# Altium footprint library PcbLib_Connectors.PcbLib: 3 footprints
Each footprint in its own frame and in the unit in brackets; x right, y up, seen from the top. Pads: shape width x height; smd on the part's side, far side on the other; paste and mask are expansions set on the pad; w line width, h text height; cw(c..) or ccw(c..) is an arc to the next point about the centre after c.
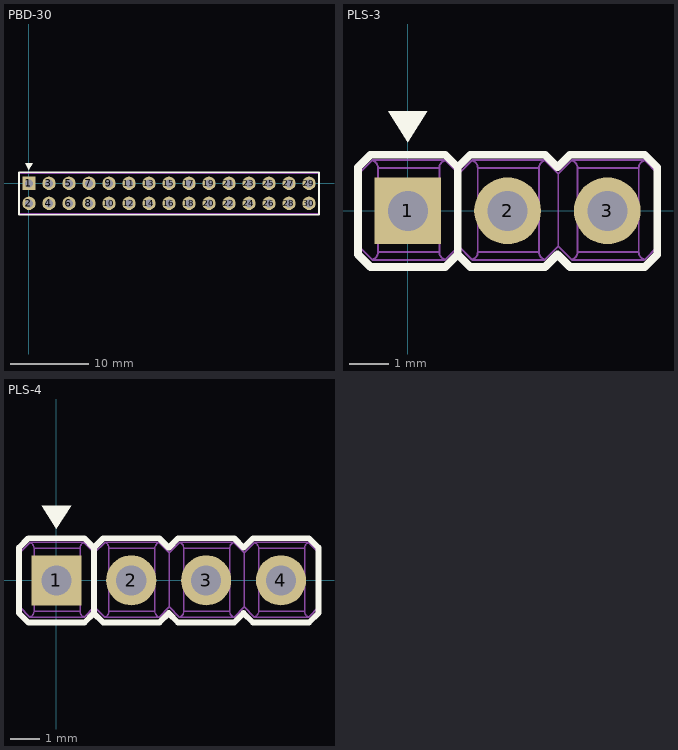
[diagram p0: the footprints below, top view; thin cyan lines are the x and y axes]

## PBD-30 [mm]
pads (30):
  rect 1.7x1.7 hole 1.02: 1(0,0)
  round 1.7 hole 1.02: 2(0,-2.54) 3(2.54,0) 4(2.54,-2.54) 5(5.08,0) 6(5.08,-2.54) 7(7.62,0) 8(7.62,-2.54) 9(10.16,0) 10(10.16,-2.54) 11(12.7,0) 12(12.7,-2.54) 13(15.24,0) 14(15.24,-2.54) 15(17.78,0) 16(17.78,-2.54) 17(20.32,0) 18(20.32,-2.54) 19(22.86,0) 20(22.86,-2.54) 21(25.4,0) 22(25.4,-2.54) 23(27.94,0) 24(27.94,-2.54) 25(30.48,0) 26(30.48,-2.54) 27(33.02,0) 28(33.02,-2.54) 29(35.56,0) 30(35.56,-2.54)
Top Overlay:
  region: 0,1.746 0.496,2.54 -0.496,2.54
  lines w0.2: -1.27,-3.969 -1.27,1.429 36.83,1.429 36.83,-3.969 -1.27,-3.969
Mechanical 13:
  drawing of 364 lines, arcs and shapes, not listed

## PLS-3 [mm]
pads (3):
  rect 1.7x1.7 hole 1.02: 1(0,0)
  round 1.7 hole 1.02: 2(2.54,0) 3(5.08,0)
Top Overlay:
  region: 0,1.746 0.496,2.54 -0.496,2.54
  lines w0.2: 1.27,-1.111 1.27,1.111 ; 1.27,-1.111 1.588,-1.429 3.493,-1.429 3.81,-1.111 4.128,-1.429 6.033,-1.429 6.35,-1.111 6.35,1.111 6.032,1.429 4.127,1.429 3.81,1.111 3.492,1.429 1.587,1.429 1.27,1.111 ; 1.27,-1.111 0.953,-1.429 -0.952,-1.429 -1.27,-1.111 -1.27,1.111 -0.953,1.429 0.953,1.429 1.27,1.111
Mechanical 13:
  lines w0.05: -0.907,-1.243 ccw(c-0.96,-1.05) -0.76,-1.05 ; -0.907,-1.243 -0.9,-1.25 0.94,-1.25 0.947,-1.243 ; -0.907,-1.243 -1.25,-0.9 -1.25,0.94 -0.907,1.283 ; -0.907,1.283 cw(c-0.96,1.09) -0.76,1.09 ; -0.907,1.283 -0.9,1.29 0.94,1.29 0.947,1.283 ; -0.76,-1.05 0.8,-1.05 ; -0.76,-1.05 -0.76,1.09 ; -0.76,1.09 0.8,1.09 ; -0.335,-0.335 -0.335,0.335 ; -0.335,-0.335 -0.135,-0.135 ; -0.335,-0.335 0.335,-0.335 ; -0.335,0.335 -0.135,0.135 ; -0.335,0.335 0.335,0.335 ; -0.135,-0.135 -0.135,0.135 ; -0.135,-0.135 0.135,-0.135 ; -0.135,0.135 0.135,0.135 ; 0.135,-0.135 0.335,-0.335 ; 0.135,-0.135 0.135,0.135 ; 0.135,0.135 0.335,0.335 ; 0.335,-0.335 0.335,0.335 ; 0.8,-1.05 ccw(c1,-1.05) 0.947,-1.243 ; 0.8,-1.05 0.8,1.09 ; 0.8,1.09 cw(c1,1.09) 0.947,1.283 ; 0.947,-1.243 1.29,-0.9 ; 0.947,1.283 1.29,0.94 ; 1.29,-0.9 1.633,-1.243 ; 1.29,-0.9 1.29,0.94 ; 1.29,0.94 1.633,1.283 ; 1.633,-1.243 ccw(c1.58,-1.05) 1.78,-1.05 ; 1.633,-1.243 1.64,-1.25 3.48,-1.25 3.487,-1.243 ; 1.633,1.283 cw(c1.58,1.09) 1.78,1.09 ; 1.633,1.283 1.64,1.29 3.48,1.29 3.487,1.283 ; 1.78,-1.05 3.34,-1.05 ; 1.78,-1.05 1.78,1.09 ; 1.78,1.09 3.34,1.09 ; 2.205,-0.335 2.875,-0.335 ; 2.205,-0.335 2.405,-0.135 ; 2.205,-0.335 2.205,0.335 ; 2.205,0.335 2.875,0.335 ; 2.205,0.335 2.405,0.135 ; 2.405,-0.135 2.675,-0.135 ; 2.405,-0.135 2.405,0.135 ; 2.405,0.135 2.675,0.135 ; 2.675,-0.135 2.875,-0.335 ; 2.675,-0.135 2.675,0.135 ; 2.675,0.135 2.875,0.335 ; 2.875,-0.335 2.875,0.335 ; 3.34,-1.05 ccw(c3.54,-1.05) 3.487,-1.243 ; 3.34,-1.05 3.34,1.09 ; 3.34,1.09 cw(c3.54,1.09) 3.487,1.283 ; 3.487,-1.243 3.83,-0.9 ; 3.487,1.283 3.83,0.94 ; 3.83,-0.9 4.173,-1.243 ; 3.83,-0.9 3.83,0.94 ; 3.83,0.94 4.173,1.283 ; 4.173,-1.243 ccw(c4.12,-1.05) 4.32,-1.05 ; 4.173,-1.243 4.18,-1.25 6.02,-1.25 6.027,-1.243 ; 4.173,1.283 cw(c4.12,1.09) 4.32,1.09 ; 4.173,1.283 4.18,1.29 6.02,1.29 6.027,1.283 ; 4.32,-1.05 5.88,-1.05 ; 4.32,-1.05 4.32,1.09 ; 4.32,1.09 5.88,1.09 ; 4.745,-0.335 5.415,-0.335 ; 4.745,-0.335 4.945,-0.135 ; 4.745,-0.335 4.745,0.335 ; 4.745,0.335 4.945,0.135 ; 4.745,0.335 5.415,0.335 ; 4.945,-0.135 5.215,-0.135 ; 4.945,-0.135 4.945,0.135 ; 4.945,0.135 5.215,0.135 ; 5.215,-0.135 5.415,-0.335 ; 5.215,-0.135 5.215,0.135 ; 5.215,0.135 5.415,0.335 ; 5.415,-0.335 5.415,0.335 ; 5.88,-1.05 ccw(c6.08,-1.05) 6.027,-1.243 ; 5.88,-1.05 5.88,1.09 ; 5.88,1.09 cw(c6.08,1.09) 6.027,1.283 ; 6.027,-1.243 6.37,-0.9 6.37,0.94 6.027,1.283
3D body "User Library-1x3 TH Pitch 2_54mm.STEP": height 9.2, standoff -3.5, extent -1.25,-1.25 6.37,1.29

## PLS-4 [mm]
pads (4):
  rect 1.7x1.7 hole 1.02: 1(0,0)
  round 1.7 hole 1.02: 2(2.54,0) 3(5.08,0) 4(7.62,0)
Top Overlay:
  region: 0,1.746 0.496,2.54 -0.496,2.54
  lines w0.2: 1.27,-1.111 0.953,-1.429 -0.952,-1.429 -1.27,-1.111 -1.27,1.111 -0.953,1.429 0.953,1.429 1.27,1.111 ; 1.27,-1.111 1.588,-1.429 3.493,-1.429 3.81,-1.111 4.128,-1.429 6.033,-1.429 6.35,-1.111 6.668,-1.429 8.573,-1.429 8.89,-1.111 8.89,1.111 8.572,1.429 6.667,1.429 6.35,1.111 6.032,1.429 4.127,1.429 3.81,1.111 3.492,1.429 1.587,1.429 1.27,1.111 ; 1.27,-1.111 1.27,1.111
Mechanical 13:
  lines w0.05: -0.907,-1.243 ccw(c-0.96,-1.05) -0.76,-1.05 ; -0.907,-1.243 -1.25,-0.9 -1.25,0.94 -0.907,1.283 ; -0.907,-1.243 -0.9,-1.25 0.94,-1.25 0.947,-1.243 ; -0.907,1.283 cw(c-0.96,1.09) -0.76,1.09 ; -0.907,1.283 -0.9,1.29 0.94,1.29 0.947,1.283 ; -0.76,-1.05 -0.76,1.09 ; -0.76,-1.05 0.8,-1.05 ; -0.76,1.09 0.8,1.09 ; -0.335,-0.335 0.335,-0.335 ; -0.335,-0.335 -0.135,-0.135 ; -0.335,-0.335 -0.335,0.335 ; -0.335,0.335 0.335,0.335 ; -0.335,0.335 -0.135,0.135 ; -0.135,-0.135 0.135,-0.135 ; -0.135,-0.135 -0.135,0.135 ; -0.135,0.135 0.135,0.135 ; 0.135,-0.135 0.135,0.135 ; 0.135,-0.135 0.335,-0.335 ; 0.135,0.135 0.335,0.335 ; 0.335,-0.335 0.335,0.335 ; 0.8,-1.05 ccw(c1,-1.05) 0.947,-1.243 ; 0.8,-1.05 0.8,1.09 ; 0.8,1.09 cw(c1,1.09) 0.947,1.283 ; 0.947,-1.243 1.29,-0.9 ; 0.947,1.283 1.29,0.94 ; 1.29,-0.9 1.29,0.94 ; 1.29,-0.9 1.633,-1.243 ; 1.29,0.94 1.633,1.283 ; 1.633,-1.243 ccw(c1.58,-1.05) 1.78,-1.05 ; 1.633,-1.243 1.64,-1.25 3.48,-1.25 3.487,-1.243 ; 1.633,1.283 cw(c1.58,1.09) 1.78,1.09 ; 1.633,1.283 1.64,1.29 3.48,1.29 3.487,1.283 ; 1.78,-1.05 1.78,1.09 ; 1.78,-1.05 3.34,-1.05 ; 1.78,1.09 3.34,1.09 ; 2.205,-0.335 2.205,0.335 ; 2.205,-0.335 2.405,-0.135 ; 2.205,-0.335 2.875,-0.335 ; 2.205,0.335 2.405,0.135 ; 2.205,0.335 2.875,0.335 ; 2.405,-0.135 2.405,0.135 ; 2.405,-0.135 2.675,-0.135 ; 2.405,0.135 2.675,0.135 ; 2.675,-0.135 2.675,0.135 ; 2.675,-0.135 2.875,-0.335 ; 2.675,0.135 2.875,0.335 ; 2.875,-0.335 2.875,0.335 ; 3.34,-1.05 ccw(c3.54,-1.05) 3.487,-1.243 ; 3.34,-1.05 3.34,1.09 ; 3.34,1.09 cw(c3.54,1.09) 3.487,1.283 ; 3.487,-1.243 3.83,-0.9 ; 3.487,1.283 3.83,0.94 ; 3.83,-0.9 3.83,0.94 ; 3.83,-0.9 4.173,-1.243 ; 3.83,0.94 4.173,1.283 ; 4.173,-1.243 ccw(c4.12,-1.05) 4.32,-1.05 ; 4.173,-1.243 4.18,-1.25 6.02,-1.25 6.027,-1.243 ; 4.173,1.283 cw(c4.12,1.09) 4.32,1.09 ; 4.173,1.283 4.18,1.29 6.02,1.29 6.027,1.283 ; 4.32,-1.05 4.32,1.09 ; 4.32,-1.05 5.88,-1.05 ; 4.32,1.09 5.88,1.09 ; 4.745,-0.335 4.745,0.335 ; 4.745,-0.335 4.945,-0.135 ; 4.745,-0.335 5.415,-0.335 ; 4.745,0.335 5.415,0.335 ; 4.745,0.335 4.945,0.135 ; 4.945,-0.135 4.945,0.135 ; 4.945,-0.135 5.215,-0.135 ; 4.945,0.135 5.215,0.135 ; 5.215,-0.135 5.215,0.135 ; 5.215,-0.135 5.415,-0.335 ; 5.215,0.135 5.415,0.335 ; 5.415,-0.335 5.415,0.335 ; 5.88,-1.05 ccw(c6.08,-1.05) 6.027,-1.243 ; 5.88,-1.05 5.88,1.09 ; 5.88,1.09 cw(c6.08,1.09) 6.027,1.283 ; 6.027,-1.243 6.37,-0.9 ; 6.027,1.283 6.37,0.94 ; 6.37,-0.9 6.37,0.94 ; 6.37,-0.9 6.713,-1.243 ; 6.37,0.94 6.713,1.283 ; 6.713,-1.243 ccw(c6.66,-1.05) 6.86,-1.05 ; 6.713,-1.243 6.72,-1.25 8.56,-1.25 8.567,-1.243 ; 6.713,1.283 cw(c6.66,1.09) 6.86,1.09 ; 6.713,1.283 6.72,1.29 8.56,1.29 8.567,1.283 ; 6.86,-1.05 6.86,1.09 ; 6.86,-1.05 8.42,-1.05 ; 6.86,1.09 8.42,1.09 ; 7.285,-0.335 7.955,-0.335 ; 7.285,-0.335 7.485,-0.135 ; 7.285,-0.335 7.285,0.335 ; 7.285,0.335 7.955,0.335 ; 7.285,0.335 7.485,0.135 ; 7.485,-0.135 7.755,-0.135 ; 7.485,-0.135 7.485,0.135 ; 7.485,0.135 7.755,0.135 ; 7.755,-0.135 7.755,0.135 ; 7.755,-0.135 7.955,-0.335 ; 7.755,0.135 7.955,0.335 ; 7.955,-0.335 7.955,0.335 ; 8.42,-1.05 ccw(c8.62,-1.05) 8.567,-1.243 ; 8.42,-1.05 8.42,1.09 ; 8.42,1.09 cw(c8.62,1.09) 8.567,1.283 ; 8.567,-1.243 8.91,-0.9 8.91,0.94 8.567,1.283
3D body "User Library-1x4 TH Pitch 2_54mm.STEP": height 9.2, standoff -3.5, extent -1.27,-1.27 8.89,1.27